# Altium schematic symbol library k7sch1.SchLib: 20 symbols
Pins are listed as number, name and electrical type; pins without a type are passive.

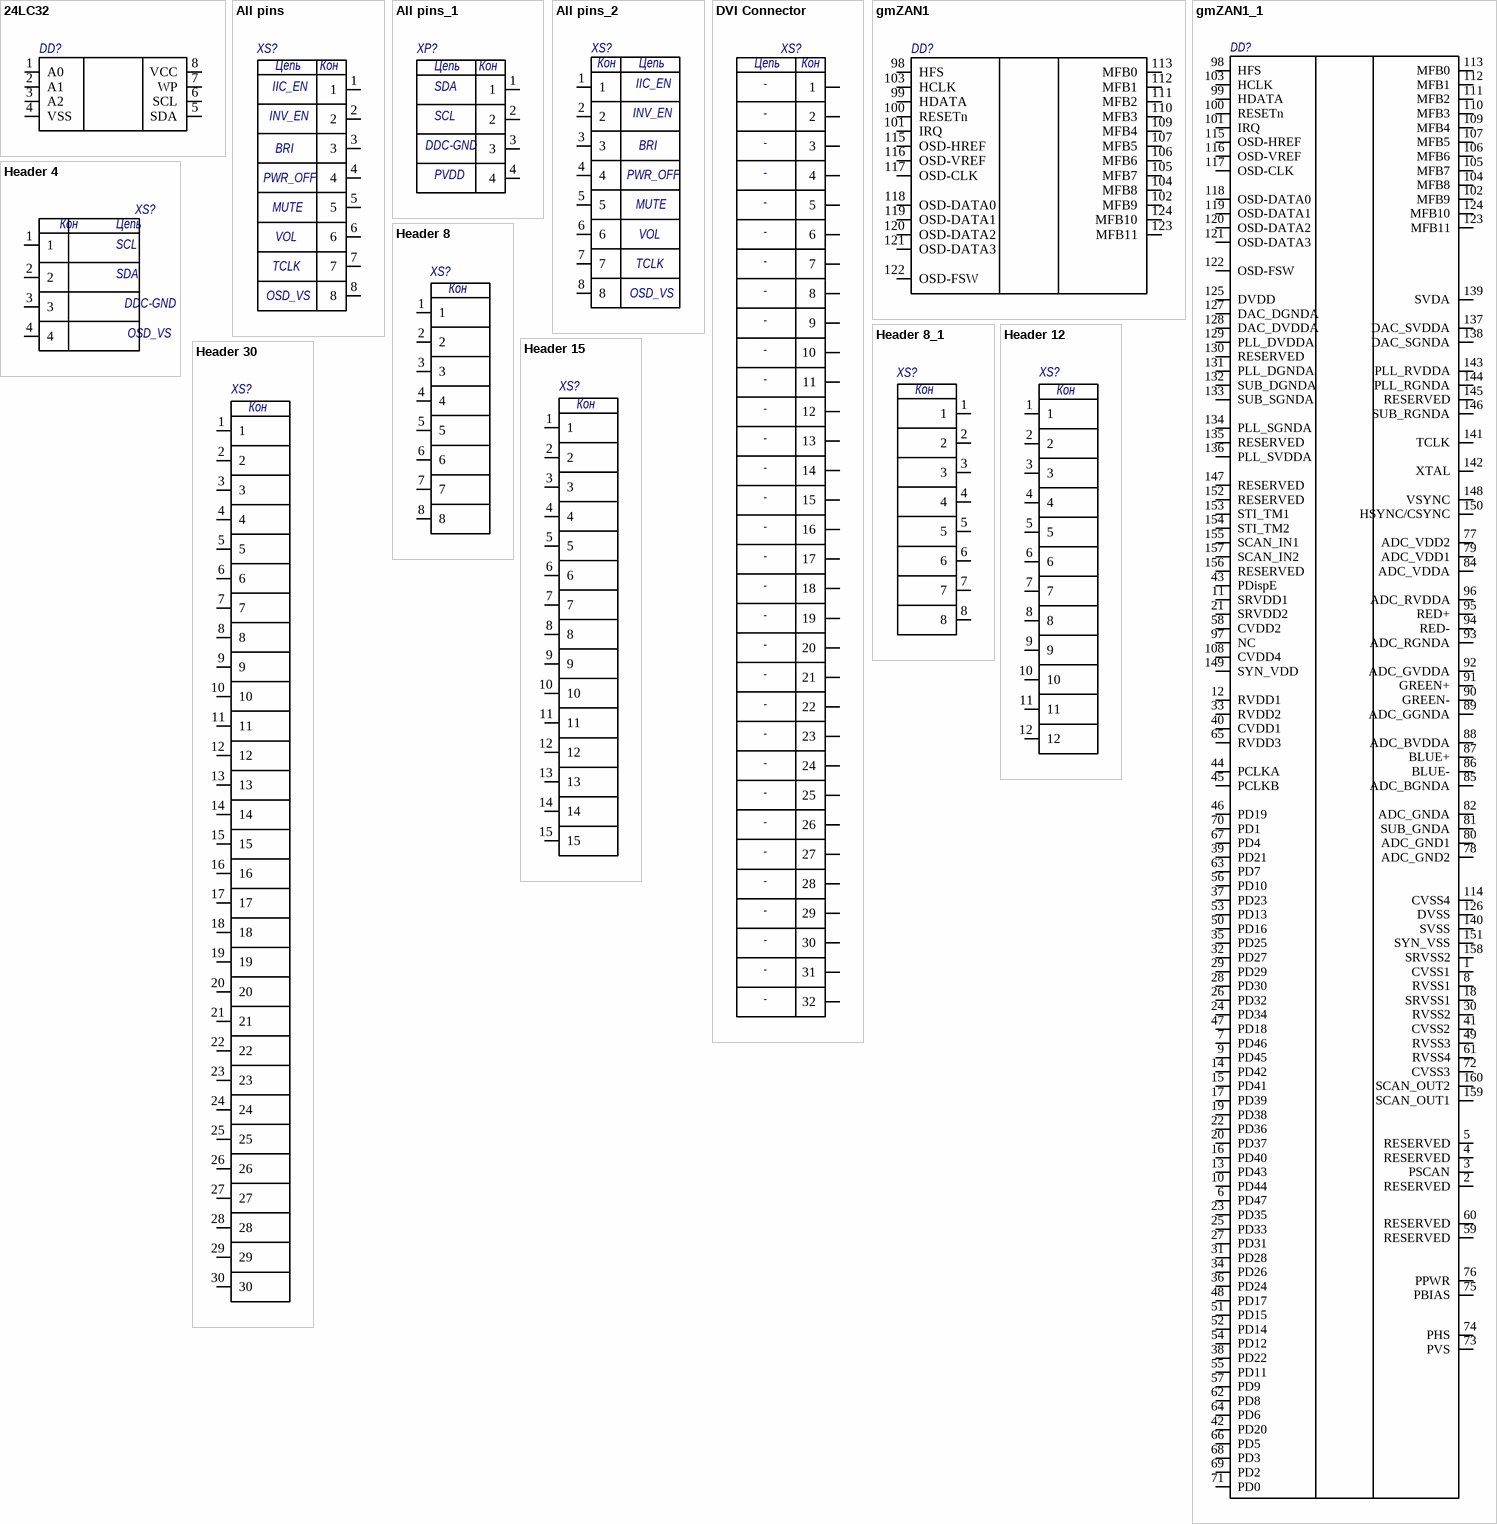
[diagram p0: symbols 24LC32 to Header 30]

## 24LC32
designator DD?  (value not drawn)
footprint 24LC32 (SON, 8-Leads, Body 3,10x6,40mm, Pitch 0,65mm, IPC Medium Density)
pins: 1 A0, 2 A1, 3 A2, 4 VSS, 5 SDA, 6 SCL, 7 WP, 8 VCC

## All pins
designator XS?  (value not drawn)
footprint All pins
pins: 1, 2, 3, 4, 5, 6, 7, 8
text: Цепь; Кон; IIC_EN; INV_EN; BRI; PWR_OFF; MUTE; VOL; TCLK; OSD_VS

## All pins_1
designator XP?  (value not drawn)
footprint Header 4
pins: 1, 2, 3, 4
text: Цепь; Кон; SDA; SCL; DDC-GND; PVDD

## All pins_2
designator XS?  (value not drawn)
footprint All pins
pins: 1, 2, 3, 4, 5, 6, 7, 8
text: Кон; Цепь; IIC_EN; INV_EN; BRI; PWR_OFF; MUTE; VOL; TCLK; OSD_VS

## DVI Connector
designator XS?  (value not drawn)
footprint DVI Connector
pins: 1, 2, 3, 4, 5, 6, 7, 8, 9, 10, 11, 12, 13, 14, 15, 16, 17, 18, 19, 20, 21, 22, 23, 24, 25, 26, 27, 28, 29, 30, 31, 32
text: Цепь; Кон; -

## gmZAN1
designator DD?  (value not drawn)
footprint GMZAN1 (QFP, 160-Leads, Body 27,90x27,90mm, Pitch 0,65mm, IPC Medium Density)
pins: 98 HFS, 99 HDATA, 100 RESETn, 101 IRQ, 102 MFB9, 103 HCLK, 104 MFB8, 105 MFB7, 106 MFB6, 107 MFB5, 109 MFB4, 110 MFB3, 111 MFB2, 112 MFB1, 113 MFB0, 115 OSD-HREF, 116 OSD-VREF, 117 OSD-CLK, 118 OSD-DATA0, 119 OSD-DATA1, 120 OSD-DATA2, 121 OSD-DATA3, 122 OSD-FSW, 123 MFB11, 124 MFB10

## gmZAN1_1
designator DD?  (value not drawn)
footprint GMZAN1 (QFP, 160-Leads, Body 27,90x27,90mm, Pitch 0,65mm, IPC Medium Density)
pins: 1 CVSS1, 2 RESERVED, 3 PSCAN, 4 RESERVED, 5 RESERVED, 6 PD47, 7 PD46, 8 RVSS1, 9 PD45, 10 PD44, 11 SRVDD1, 12 RVDD1, 13 PD43, 14 PD42, 15 PD41, 16 PD40, 17 PD39, 18 SRVSS1, 19 PD38, 20 PD37, 21 SRVDD2, 22 PD36, 23 PD35, 24 PD34, 25 PD33, 26 PD32, 27 PD31, 28 PD30, 29 PD29, 30 RVSS2, 31 PD28, 32 PD27, 33 RVDD2, 34 PD26, 35 PD25, 36 PD24, 37 PD23, 38 PD22, 39 PD21, 40 CVDD1, 41 CVSS2, 42 PD20, 43 PDispE, 44 PCLKA, 45 PCLKB, 46 PD19, 47 PD18, 48 PD17, 49 RVSS3, 50 PD16, 51 PD15, 52 PD14, 53 PD13, 54 PD12, 55 PD11, 56 PD10, 57 PD9, 58 CVDD2, 59 RESERVED, 60 RESERVED, 61 RVSS4, 62 PD8, 63 PD7, 64 PD6, 65 RVDD3, 66 PD5, 67 PD4, 68 PD3, 69 PD2, 70 PD1, 71 PD0, 72 CVSS3, 73 PVS, 74 PHS, 75 PBIAS, 76 PPWR, 77 ADC_VDD2, 78 ADC_GND2, 79 ADC_VDD1, 80 ADC_GND1, 81 SUB_GNDA, 82 ADC_GNDA, 84 ADC_VDDA, 85 ADC_BGNDA, 86 BLUE-, 87 BLUE+, 88 ADC_BVDDA, 89 ADC_GGNDA, 90 GREEN-, 91 GREEN+, 92 ADC_GVDDA, 93 ADC_RGNDA, 94 RED-, 95 RED+, 96 ADC_RVDDA, 97 NC, 98 HFS, 99 HDATA, 100 RESETn, 101 IRQ, 102 MFB9, 103 HCLK, 104 MFB8, 105 MFB7, 106 MFB6, 107 MFB5, 108 CVDD4, 109 MFB4, 110 MFB3, 111 MFB2, 112 MFB1, 113 MFB0, 114 CVSS4, 115 OSD-HREF, 116 OSD-VREF, 117 OSD-CLK, 118 OSD-DATA0, 119 OSD-DATA1, 120 OSD-DATA2, 121 OSD-DATA3, 122 OSD-FSW, 123 MFB11, 124 MFB10, 125 DVDD, 126 DVSS, 127 DAC_DGNDA, 128 DAC_DVDDA, 129 PLL_DVDDA, 130 RESERVED, 131 PLL_DGNDA, 132 SUB_DGNDA, 133 SUB_SGNDA, 134 PLL_SGNDA, 135 RESERVED, 136 PLL_SVDDA, 137 DAC_SVDDA, 138 DAC_SGNDA, 139 SVDA, 140 SVSS, 141 TCLK, 142 XTAL, 143 PLL_RVDDA, 144 PLL_RGNDA, 145 RESERVED, 146 SUB_RGNDA, 147 RESERVED, 148 VSYNC, 149 SYN_VDD, 150 HSYNC/CSYNC, 151 SYN_VSS, 152 RESERVED, 153 STI_TM1, 154 STI_TM2, 155 SCAN_IN1, 156 RESERVED, 157 SCAN_IN2, 158 SRVSS2, 159 SCAN_OUT1, 160 SCAN_OUT2

## Header 4
designator XS?  (value not drawn)
footprint Header 4
pins: 1, 2, 3, 4
text: Кон; Цепь; SCL; SDA; DDC-GND; OSD_VS

## Header 8
designator XS?  (value not drawn)
footprint Header 8
pins: 1, 2, 3, 4, 5, 6, 7, 8
text: Кон

## Header 8_1
designator XS?  (value not drawn)
footprint Header 8
pins: 1, 2, 3, 4, 5, 6, 7, 8
text: Кон

## Header 12
designator XS?  (value not drawn)
footprint All pins
pins: 1, 2, 3, 4, 5, 6, 7, 8, 9, 10, 11, 12
text: Кон

## Header 15
designator XS?  (value not drawn)
footprint Header 15
pins: 1, 2, 3, 4, 5, 6, 7, 8, 9, 10, 11, 12, 13, 14, 15
text: Кон

## Header 30
designator XS?  (value not drawn)
footprint Header 30
pins: 1, 2, 3, 4, 5, 6, 7, 8, 9, 10, 11, 12, 13, 14, 15, 16, 17, 18, 19, 20, 21, 22, 23, 24, 25, 26, 27, 28, 29, 30
text: Кон

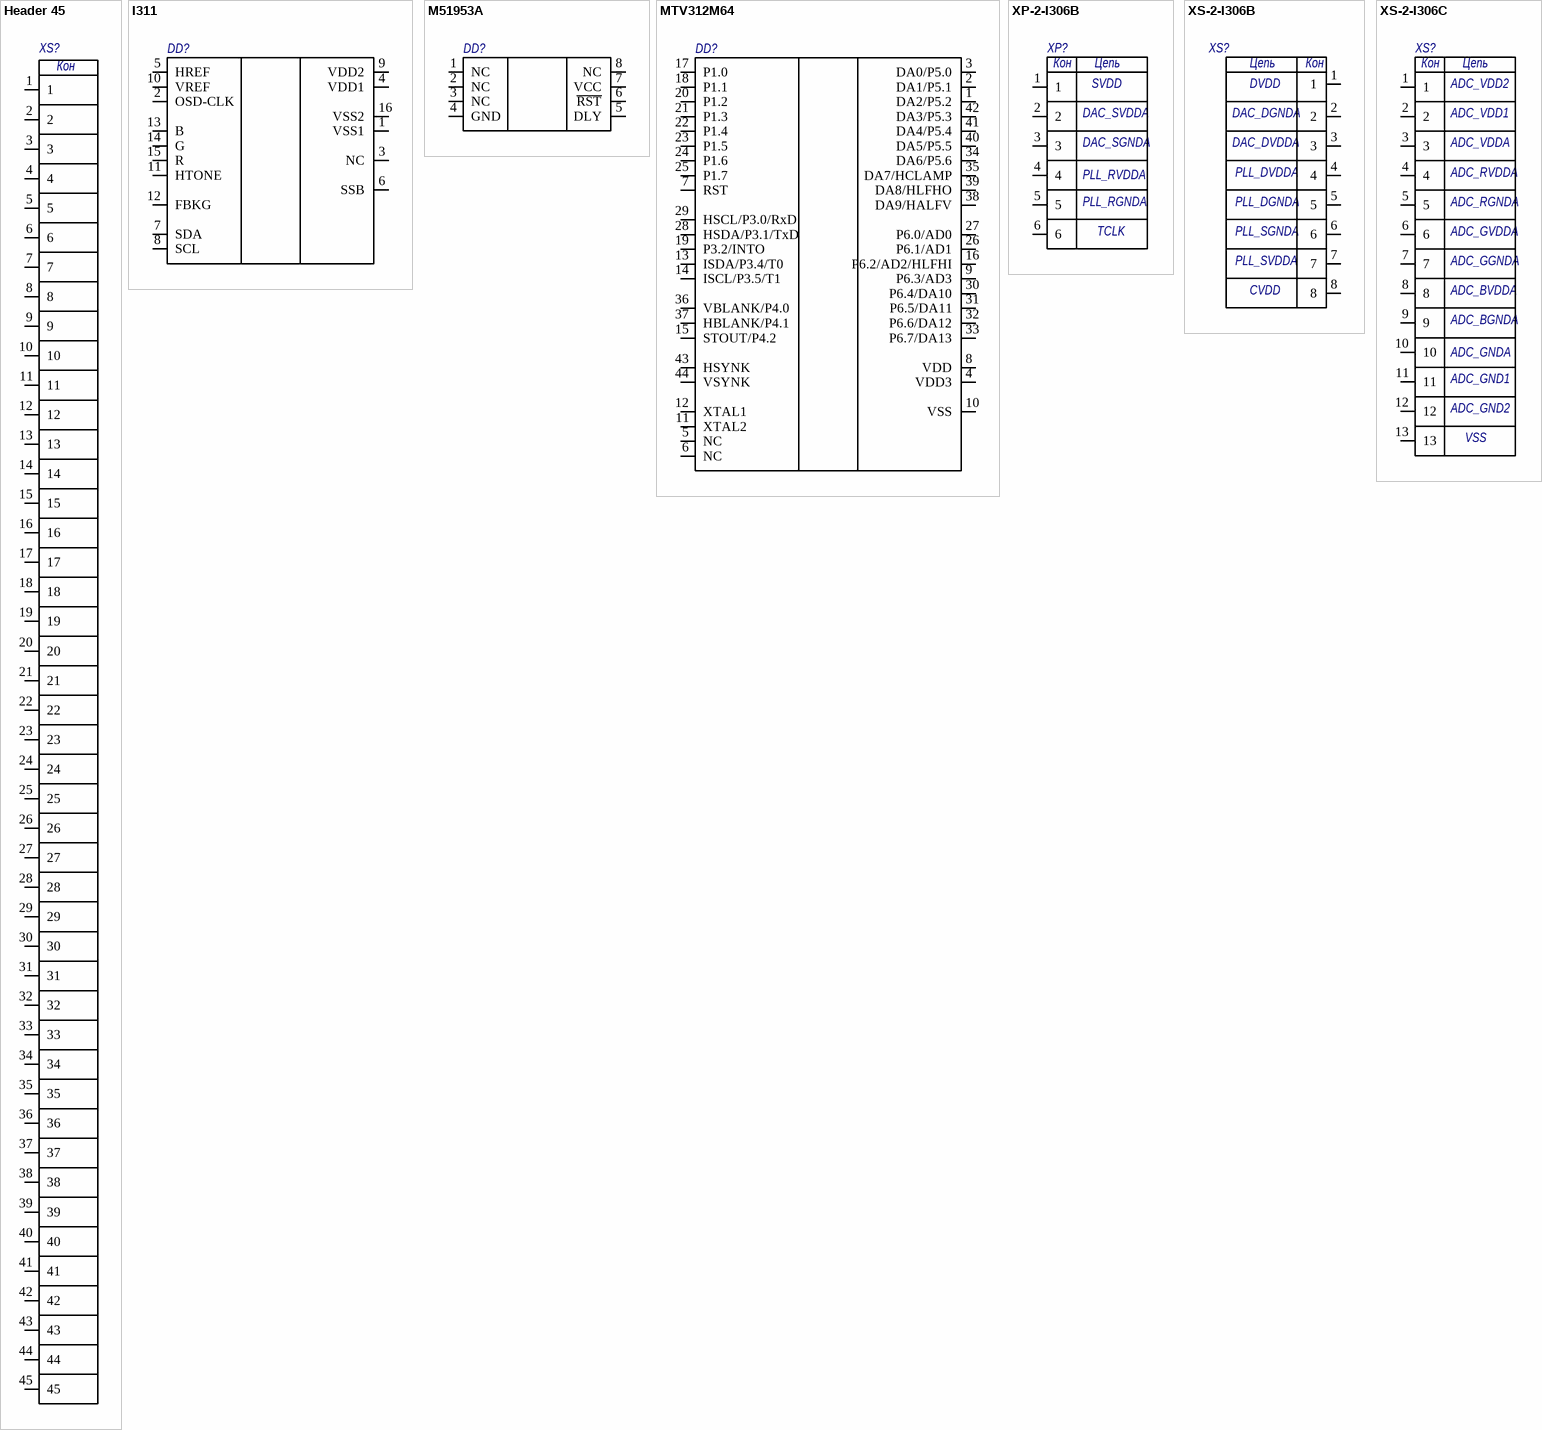
[diagram p1: symbols Header 45 to XS-2-I306C]

## Header 45
designator XS?  (value not drawn)
footprint Header 45
pins: 1, 2, 3, 4, 5, 6, 7, 8, 9, 10, 11, 12, 13, 14, 15, 16, 17, 18, 19, 20, 21, 22, 23, 24, 25, 26, 27, 28, 29, 30, 31, 32, 33, 34, 35, 36, 37, 38, 39, 40, 41, 42, 43, 44, 45
text: Кон

## I311
designator DD?  (value not drawn)
footprint I311 (SON, 16-Leads, Body 9,80x5,60mm, Pitch 1,30mm, Thermal Pad 0,00x0,00mm, IPC Medium Density)
pins: 1 VSS1, 2 OSD-CLK, 3 NC, 4 VDD1, 5 HREF, 6 SSB, 7 SDA, 8 SCL, 9 VDD2, 10 VREF, 11 HTONE, 12 FBKG, 13 B, 14 G, 15 R, 16 VSS2

## M51953A
designator DD?  (value not drawn)
footprint M51953A
pins: 1 NC, 2 NC, 3 NC, 4 GND, 5 DLY, 6 ~{RST}, 7 VCC, 8 NC

## MTV312M64
designator DD?  (value not drawn)
footprint MTV312M64 (Leaded Chip Carrier, 44-Leads, Body 26,40x26,40mm, Pitch 1,780mm, IPC Medium Density)
pins: 1 DA2/P5.2, 2 DA1/P5.1, 3 DA0/P5.0, 4 VDD3, 5 NC, 6 NC, 7 RST, 8 VDD, 9 P6.3/AD3, 10 VSS, 11 XTAL2, 12 XTAL1, 13 ISDA/P3.4/T0, 14 ISCL/P3.5/T1, 15 STOUT/P4.2, 16 P6.2/AD2/HLFHI, 17 P1.0, 18 P1.1, 19 P3.2/INTO, 20 P1.2, 21 P1.3, 22 P1.4, 23 P1.5, 24 P1.6, 25 P1.7, 26 P6.1/AD1, 27 P6.0/AD0, 28 HSDA/P3.1/TxD, 29 HSCL/P3.0/RxD, 30 P6.4/DA10, 31 P6.5/DA11, 32 P6.6/DA12, 33 P6.7/DA13, 34 DA6/P5.6, 35 DA7/HCLAMP, 36 VBLANK/P4.0, 37 HBLANK/P4.1, 38 DA9/HALFV, 39 DA8/HLFHO, 40 DA5/P5.5, 41 DA4/P5.4, 42 DA3/P5.3, 43 HSYNK, 44 VSYNK

## XP-2-I306B
designator XP?  (value not drawn)
footprint XP-2-I306B
pins: 1, 2, 3, 4, 5, 6
text: Кон; Цепь; SVDD; DAC_SVDDA; DAC_SGNDA; PLL_RVDDA; PLL_RGNDA; TCLK

## XS-2-I306B
designator XS?  (value not drawn)
footprint Header 8
pins: 1, 2, 3, 4, 5, 6, 7, 8
text: Цепь; Кон; DVDD; DAC_DGNDA; DAC_DVDDA; PLL_DVDDA; PLL_DGNDA; PLL_SGNDA; PLL_SVDDA; CVDD

## XS-2-I306C
designator XS?  (value not drawn)
footprint header 13
pins: 1, 2, 3, 4, 5, 6, 7, 8, 9, 10, 11, 12, 13
text: Кон; Цепь; ADC_VDD2; ADC_VDD1; ADC_VDDA; ADC_RVDDA; ADC_RGNDA; ADC_GVDDA; ADC_GGNDA; ADC_BVDDA; ADC_BGNDA; ADC_GNDA; ADC_GND1; ADC_GND2; VSS